# EAGLE library part MM74HC573 (library Fairchild Semiconductor)
MM74HC573 - 3-State Octal D-Type Latch Website: http://www.fairchildsemi.com/pf/MM/MM74HC573.html Datasheet: http://www.fairchildsemi.com/ds/MM/MM74HC573.pdf
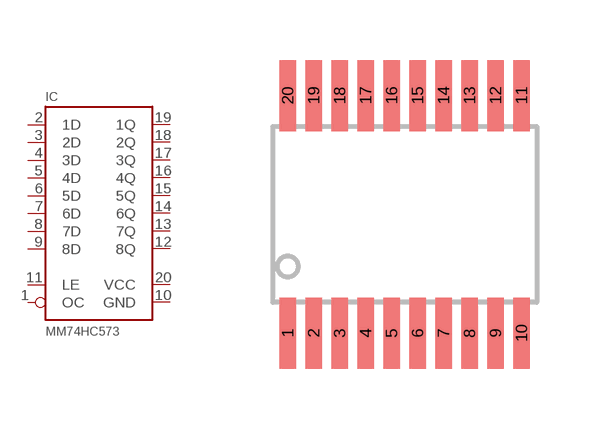
[diagram p0: symbol with the pads of TSSOP-20; footprint TSSOP-20]

Designator prefix IC

## MM74HC573MTC  [TSSOP-20]
1  OC  in
2  1D  in
3  2D  in
4  3D  in
5  4D  in
6  5D  in
7  6D  in
8  7D  in
9  8D  in
10  GND  pwr
11  LE  in
12  8Q  out
13  7Q  out
14  6Q  out
15  5Q  out
16  4Q  out
17  3Q  out
18  2Q  out
19  1Q  out
20  VCC  pwr

## Footprint TSSOP-20 (pad centres in mm)
20-Lead Thin Shrink Small Outline Package (TSSOP) JEDEC MO-153, 4.4mm Wide, Package Number MTC20 Drawing: https://www.fairchildsemi.com/dwg/MT/MTC20.pdf
smd 0.42 x 1.78: 1 -2.925,-2.97; 2 -2.275,-2.97; 3 -1.625,-2.97; 4 -0.975,-2.97; 5 -0.325,-2.97; 6 0.325,-2.97; 7 0.975,-2.97; 8 1.625,-2.97; 9 2.275,-2.97; 10 2.925,-2.97; 11 2.925,2.97; 12 2.275,2.97; 13 1.625,2.97; 14 0.975,2.97; 15 0.325,2.97; 16 -0.325,2.97; 17 -0.975,2.97; 18 -1.625,2.97; 19 -2.275,2.97; 20 -2.925,2.97